# Altium footprint library 21xt_footprints.PcbLib: 29 footprints (part 2 of 2)
Each footprint in its own frame and in the unit in brackets; x right, y up, seen from the top. Pads: shape width x height; smd on the part's side, far side on the other; paste and mask are expansions set on the pad; w line width, h text height; cw(c..) or ccw(c..) is an arc to the next point about the centre after c.
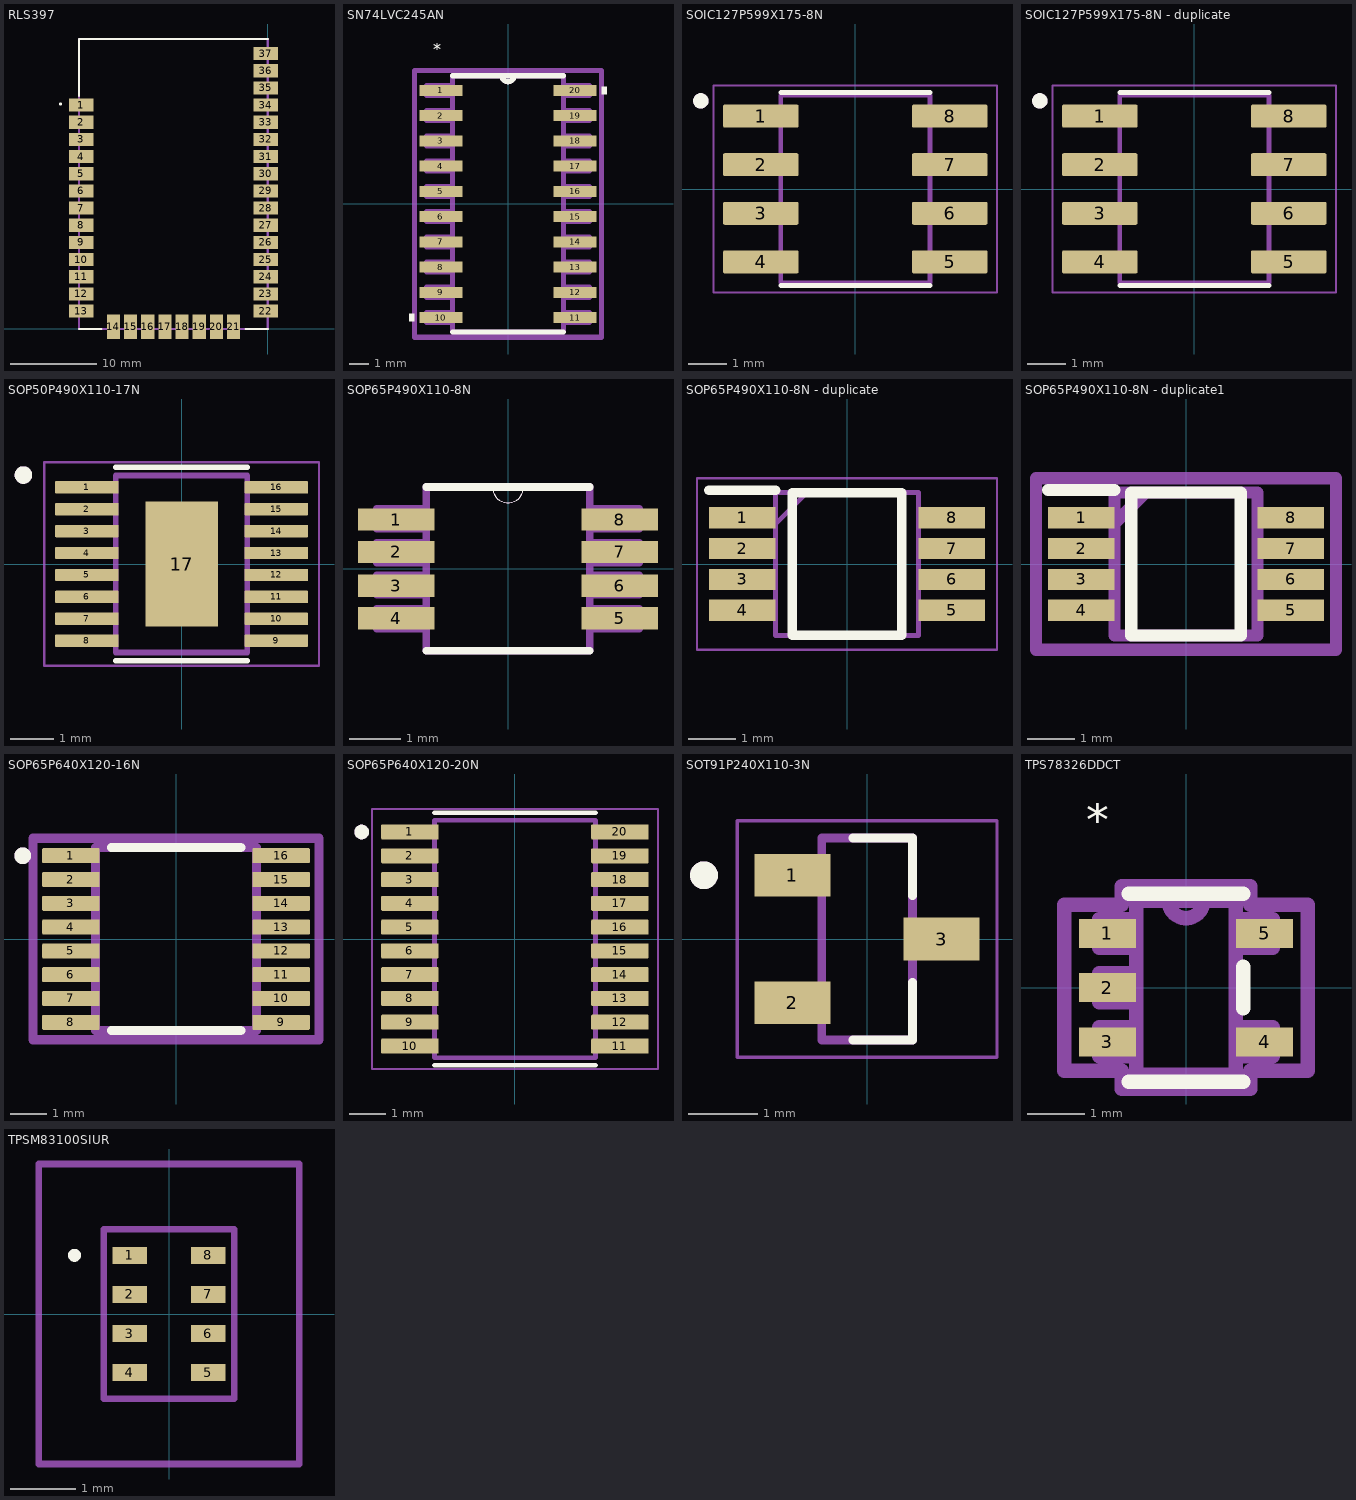
[diagram p1: the footprints below, top view; thin cyan lines are the x and y axes]

## RLS397 [mil]
pads (37):
  rect 112x60 smd: 1(-856,1027) 2(-856,948.26) 3(-856,869.52) 4(-856,790.78) 5(-856,712.04) 6(-856,633.3) 7(-856,554.56) 8(-856,475.82) 9(-856,397.08) 10(-856,318.34) 11(-856,239.6) 12(-856,160.86) 13(-856,82.12) 22(-10,82.12) 23(-10,160.86) 24(-10,239.6) 25(-10,318.34) 26(-10,397.08) 27(-10,475.82) 28(-10,554.56) 29(-10,633.3) 30(-10,712.04) 31(-10,790.78) 32(-10,869.52) 33(-10,948.26) 34(-10,1027) 35(-10,1105.74) 36(-10,1184.48) 37(-10,1263.22)
  rect 60x112 smd: 14(-708,10) 15(-629.26,10) 16(-550.52,10) 17(-471.78,10) 18(-393.04,10) 19(-314.3,10) 20(-235.56,10) 21(-156.82,10)
F.SilkS:
  circle w10: c-950.51,1031.93 r1.81
  lines w10: -866,0 -763.78,0 ; -866,1068.03 -866,1330 0,1330 ; -102.36,0 0,0
F.Fab:
  lines w10: -866,0 -866,1330 0,1330 0,0 -866,0
  text "'.Designator'" at -532.32,579.17 h50

## SN74LVC245AN [mil]
pads (20):
  rect 85x22 smd: 1(-133,225) 2(-133,175) 3(-133,125) 4(-133,75) 5(-133,25) 6(-133,-25) 7(-133,-75) 8(-133,-125) 9(-133,-175) 10(-133,-225) 11(133,-225) 12(133,-175) 13(133,-125) 14(133,-75) 15(133,-25) 16(133,25) 17(133,75) 18(133,125) 19(133,175) 20(133,225)
F.SilkS:
  region: -185.5,-232.5 -195.5,-232.5 -195.5,-217.5 -185.5,-217.5
  region: 195.5,217.5 185.5,217.5 185.5,232.5 195.5,232.5
  lines w10: -110,-254 110,-254 ; -110,254 110,254 ; -12,254 ccw(c0,254) 12,254
  text "*" at -147.79,287.4 h39.37
  text "*" at -147.79,287.4 h39.37
F.Fab:
  lines w10: -12,254 ccw(c0,254) 12,254 ; -161.5,-235 -161.5,-215 -110,-215 -110,-235 -161.5,-235 ; -161.5,-185 -161.5,-165 -110,-165 -110,-185 -161.5,-185 ; -161.5,-135 -161.5,-115 -110,-115 -110,-135 -161.5,-135 ; -161.5,-85 -161.5,-65 -110,-65 -110,-85 -161.5,-85 ; -161.5,-35 -161.5,-15 -110,-15 -110,-35 -161.5,-35 ; -161.5,15 -161.5,35 -110,35 -110,15 -161.5,15 ; -161.5,65 -161.5,85 -110,85 -110,65 -161.5,65 ; -161.5,115 -161.5,135 -110,135 -110,115 -161.5,115 ; -161.5,165 -161.5,185 -110,185 -110,165 -161.5,165 ; -161.5,215 -161.5,235 -110,235 -110,215 -161.5,215 ; -110,-254 -110,254 110,254 110,-254 -110,-254 ; 110,-235 110,-215 161.5,-215 161.5,-235 110,-235 ; 110,-185 110,-165 161.5,-165 161.5,-185 110,-185 ; 110,-135 110,-115 161.5,-115 161.5,-135 110,-135 ; 110,-85 110,-65 161.5,-65 161.5,-85 110,-85 ; 110,-35 110,-15 161.5,-15 161.5,-35 110,-35 ; 110,15 110,35 161.5,35 161.5,15 110,15 ; 110,65 110,85 161.5,85 161.5,65 110,65 ; 110,115 110,135 161.5,135 161.5,115 110,115 ; 110,165 110,185 161.5,185 161.5,165 110,165 ; 110,215 110,235 161.5,235 161.5,215 110,215
  text "*" at -147.79,287.4 h39.37
  text "*" at -147.79,287.4 h39.37
  text "'.Designator'" at -56.63,-15.69 h39.37
F.CrtYd:
  lines w10: -185.5,-264 -185.5,264 185.5,264 185.5,-264 -185.5,-264

## SOIC127P599X175-8N [mm]
pads (8):
  rrect12% 1.97x0.6 smd: 1(-2.47,1.905) 2(-2.47,0.635) 3(-2.47,-0.635) 4(-2.47,-1.905) 5(2.47,-1.905) 6(2.47,-0.635) 7(2.47,0.635) 8(2.47,1.905)
F.SilkS:
  circle w0.2: c-4.04,2.305 r0.1
  lines w0.127: -1.95,-2.525 1.95,-2.525 ; -1.95,2.525 1.95,2.525
F.Fab:
  circle w0.2: c-4.04,2.305 r0.1
  lines w0.127: -1.95,-2.452 1.95,-2.452 1.95,2.452 -1.95,2.452 -1.95,-2.452
F.CrtYd:
  lines w0.05: -3.705,-2.702 3.705,-2.702 3.705,2.702 -3.705,2.702 -3.705,-2.702

## SOIC127P599X175-8N - duplicate [mm]
pads (8):
  rrect12% 1.97x0.6 smd: 1(-2.47,1.905) 2(-2.47,0.635) 3(-2.47,-0.635) 4(-2.47,-1.905) 5(2.47,-1.905) 6(2.47,-0.635) 7(2.47,0.635) 8(2.47,1.905)
F.SilkS:
  circle w0.2: c-4.04,2.305 r0.1
  lines w0.127: -1.95,-2.525 1.95,-2.525 ; -1.95,2.525 1.95,2.525
F.Fab:
  circle w0.2: c-4.04,2.305 r0.1
  lines w0.127: -1.95,-2.452 1.95,-2.452 1.95,2.452 -1.95,2.452 -1.95,-2.452
F.CrtYd:
  lines w0.05: -3.705,-2.702 3.705,-2.702 3.705,2.702 -3.705,2.702 -3.705,-2.702

## SOP50P490X110-17N [mm]
pads (17):
  rrect12% 1.45x0.28 smd: 1(-2.16,1.75) 2(-2.16,1.25) 3(-2.16,0.75) 4(-2.16,0.25) 5(-2.16,-0.25) 6(-2.16,-0.75) 7(-2.16,-1.25) 8(-2.16,-1.75) 9(2.16,-1.75) 10(2.16,-1.25) 11(2.16,-0.75) 12(2.16,-0.25) 13(2.16,0.25) 14(2.16,0.75) 15(2.16,1.25) 16(2.16,1.75)
  rect 1.651x2.845 smd: 17(0,0)
F.SilkS:
  circle w0.2: c-3.61,2.03 r0.1
  lines w0.127: -1.5,-2.21 1.5,-2.21 ; -1.5,2.21 1.5,2.21
F.Paste:
  region: 0.413,-0.711 -0.413,-0.711 -0.413,0.711 0.413,0.711
F.Fab:
  circle w0.2: c-3.61,2.03 r0.1
  lines w0.127: -1.5,-2.02 1.5,-2.02 1.5,2.02 -1.5,2.02 -1.5,-2.02
F.CrtYd:
  lines w0.05: -3.135,-2.321 3.135,-2.321 3.135,2.321 -3.135,2.321 -3.135,-2.321

## SOP65P490X110-8N [mil]
pads (8):
  rect 59x17 smd: 1(-86,38) 2(-86,13) 3(-86,-13) 4(-86,-38) 5(86,-38) 6(86,-13) 7(86,13) 8(86,38)
F.SilkS:
  lines w0: -12,63 ccw(c0,63) 12,63
  lines w6: -63,-63 63,-63 ; -63,63 -12,63 12,63 63,63
F.Fab:
  lines w0: -12,63 ccw(c0,63) 12,63
  lines w6: -101,-46 -101,-31 -63,-31 -63,-46 -101,-46 ; -101,-20 -101,-5 -63,-5 -63,-20 -101,-20 ; -101,5 -101,20 -63,20 -63,5 -101,5 ; -101,31 -101,46 -63,46 -63,31 -101,31 ; -63,-63 63,-63 63,63 12,63 -12,63 -63,63 -63,-63 ; 63,-46 63,-31 101,-31 101,-46 63,-46 ; 63,-20 63,-5 101,-5 101,-20 63,-20 ; 63,5 63,20 101,20 101,5 63,5 ; 63,31 63,46 101,46 101,31 63,31

## SOP65P490X110-8N - duplicate [mm]
pads (8):
  rect 1.4x0.45 smd: 1(-2.2,0.975) 2(-2.2,0.325) 3(-2.2,-0.325) 4(-2.2,-0.975) 5(2.2,-0.975) 6(2.2,-0.325) 7(2.2,0.325) 8(2.2,0.975)
F.SilkS:
  lines w0.2: -2.9,1.55 -1.5,1.55 ; -1.15,-1.5 1.15,-1.5 1.15,1.5 -1.15,1.5 -1.15,-1.5
F.Fab:
  lines w0.1: -1.5,0.85 -0.85,1.5 ; -1.5,-1.5 1.5,-1.5 1.5,1.5 -1.5,1.5 -1.5,-1.5
  text "'.Designator'" at -1.826,-0.506 h1.27
F.CrtYd:
  lines w0.05: -3.15,-1.8 3.15,-1.8 3.15,1.8 -3.15,1.8 -3.15,-1.8

## SOP65P490X110-8N - duplicate1 [mm]
pads (8):
  rect 1.4x0.45 smd: 1(-2.2,0.975) 2(-2.2,0.325) 3(-2.2,-0.325) 4(-2.2,-0.975) 5(2.2,-0.975) 6(2.2,-0.325) 7(2.2,0.325) 8(2.2,0.975)
F.SilkS:
  lines w0.254: -2.9,1.55 -1.5,1.55 ; -1.15,-1.5 -1.15,1.5 1.15,1.5 1.15,-1.5 -1.15,-1.5
F.Fab:
  lines w0.254: -1.5,0.85 -0.85,1.5 ; -1.5,-1.5 -1.5,1.5 1.5,1.5 1.5,-1.5 -1.5,-1.5
  text "'.Designator'" at -1.826,-0.506 h1.27
F.CrtYd:
  lines w0.254: -3.15,-1.8 -3.15,1.8 3.15,1.8 3.15,-1.8 -3.15,-1.8

## SOP65P640X120-16N [mm]
pads (16):
  rrect12% 1.57x0.41 smd: 1(-2.87,2.275) 2(-2.87,1.625) 3(-2.87,0.975) 4(-2.87,0.325) 5(-2.87,-0.325) 6(-2.87,-0.975) 7(-2.87,-1.625) 8(-2.87,-2.275) 9(2.87,-2.275) 10(2.87,-1.625) 11(2.87,-0.975) 12(2.87,-0.325) 13(2.87,0.325) 14(2.87,0.975) 15(2.87,1.625) 16(2.87,2.275)
F.SilkS:
  circle w0.254: c-4.19,2.275 r0.1
  lines w0.254: -1.765,-2.5 1.765,-2.5 ; -1.765,2.5 1.765,2.5
F.Fab:
  circle w0.254: c-4.19,2.275 r0.1
  lines w0.254: -2.2,-2.5 -2.2,2.5 2.2,2.5 2.2,-2.5 -2.2,-2.5
F.CrtYd:
  lines w0.254: -3.905,-2.75 -3.905,2.75 3.905,2.75 3.905,-2.75 -3.905,-2.75

## SOP65P640X120-20N [mm]
pads (20):
  rrect12% 1.57x0.41 smd: 1(-2.87,2.925) 2(-2.87,2.275) 3(-2.87,1.625) 4(-2.87,0.975) 5(-2.87,0.325) 6(-2.87,-0.325) 7(-2.87,-0.975) 8(-2.87,-1.625) 9(-2.87,-2.275) 10(-2.87,-2.925) 11(2.87,-2.925) 12(2.87,-2.275) 13(2.87,-1.625) 14(2.87,-0.975) 15(2.87,-0.325) 16(2.87,0.325) 17(2.87,0.975) 18(2.87,1.625) 19(2.87,2.275) 20(2.87,2.925)
F.SilkS:
  circle w0.2: c-4.19,2.925 r0.1
  lines w0.127: -2.2,-3.45 2.2,-3.45 ; -2.2,3.45 2.2,3.45
F.Fab:
  circle w0.2: c-4.19,2.925 r0.1
  lines w0.127: -2.2,-3.25 2.2,-3.25 2.2,3.25 -2.2,3.25 -2.2,-3.25
F.CrtYd:
  lines w0.05: -3.91,-3.55 3.91,-3.55 3.91,3.55 -3.91,3.55 -3.91,-3.55

## SOT91P240X110-3N [mm]
pads (3):
  rect 1.09x0.61 smd: 1(-1.07,0.915) 2(-1.07,-0.915) 3(1.07,0)
F.SilkS:
  circle w0.2: c-2.34,0.915 r0.1
  lines w0.127: -0.205,-1.45 0.65,-1.45 0.65,-0.625 ; -0.205,1.45 0.65,1.45 0.65,0.625
F.Fab:
  circle w0.2: c-2.34,0.915 r0.1
  lines w0.127: -0.65,-1.45 0.65,-1.45 0.65,1.45 -0.65,1.45 -0.65,-1.45
F.CrtYd:
  lines w0.05: -1.865,-1.7 -1.865,1.7 1.865,1.7 1.865,-1.7 -1.865,-1.7

## TPS78326DDCT [mil]
pads (5):
  rect 39.5x20 smd: 1(-54.25,37.4) 2(-54.25,0) 3(-54.25,-37.4) 4(54.25,-37.4) 5(54.25,37.4)
F.SilkS:
  lines w10: -39.5,-65 39.5,-65 ; -39.5,65 39.5,65 ; 39.5,-14.3 39.5,14.3
  text "*" at -69.04,97.81 h39.37
  text "*" at -69.04,97.81 h39.37
F.Fab:
  lines w10: -12,60 ccw(c0,60) 12,60 ; -60,-47.4 -60,-27.4 -34.5,-27.4 -34.5,-47.4 -60,-47.4 ; -60,-10 -60,10 -34.5,10 -34.5,-10 -60,-10 ; -60,27.4 -60,47.4 -34.5,47.4 -34.5,27.4 -60,27.4 ; -34.5,-60 -34.5,60 34.5,60 34.5,-60 -34.5,-60 ; 34.5,-47.4 34.5,-27.4 60,-27.4 60,-47.4 34.5,-47.4 ; 34.5,27.4 34.5,47.4 60,47.4 60,27.4 34.5,27.4
  text "'.Designator'" at -56.63,-15.69 h39.37
  text "*" at -29.29,59.81 h39.37
  text "*" at -29.29,59.81 h39.37
F.CrtYd:
  lines w10: -84,-57.4 -84,57.4 -44.5,57.4 -44.5,70 44.5,70 44.5,57.4 84,57.4 84,-57.4 44.5,-57.4 44.5,-70 -44.5,-70 -44.5,-57.4 -84,-57.4

## TPSM83100SIUR [mm]
pads (8):
  rect 0.53x0.26 smd: 1(-0.6,0.9) 2(-0.6,0.3) 3(-0.6,-0.3) 4(-0.6,-0.9) 5(0.6,-0.9) 6(0.6,-0.3) 7(0.6,0.3) 8(0.6,0.9)
F.SilkS:
  lines w0.1: -1.5,0.9 cw(c-1.45,0.9) -1.4,0.9 cw(c-1.45,0.9) -1.5,0.9
F.Fab:
  lines w0.1: -1,-1.3 1,-1.3 1,1.3 -1,1.3 -1,-1.3
  text "'.Designator'" at -1.826,-0.506 h1.27
F.CrtYd:
  lines w0.1: -2,-2.3 2,-2.3 2,2.3 -2,2.3 -2,-2.3